# Altium footprint library yusend_power.PCBLIB: 87 footprints (part 3 of 6)
Each footprint in its own frame and in the unit in brackets; x right, y up, seen from the top. Pads: shape width x height; smd on the part's side, far side on the other; paste and mask are expansions set on the pad; w line width, h text height; cw(c..) or ccw(c..) is an arc to the next point about the centre after c.
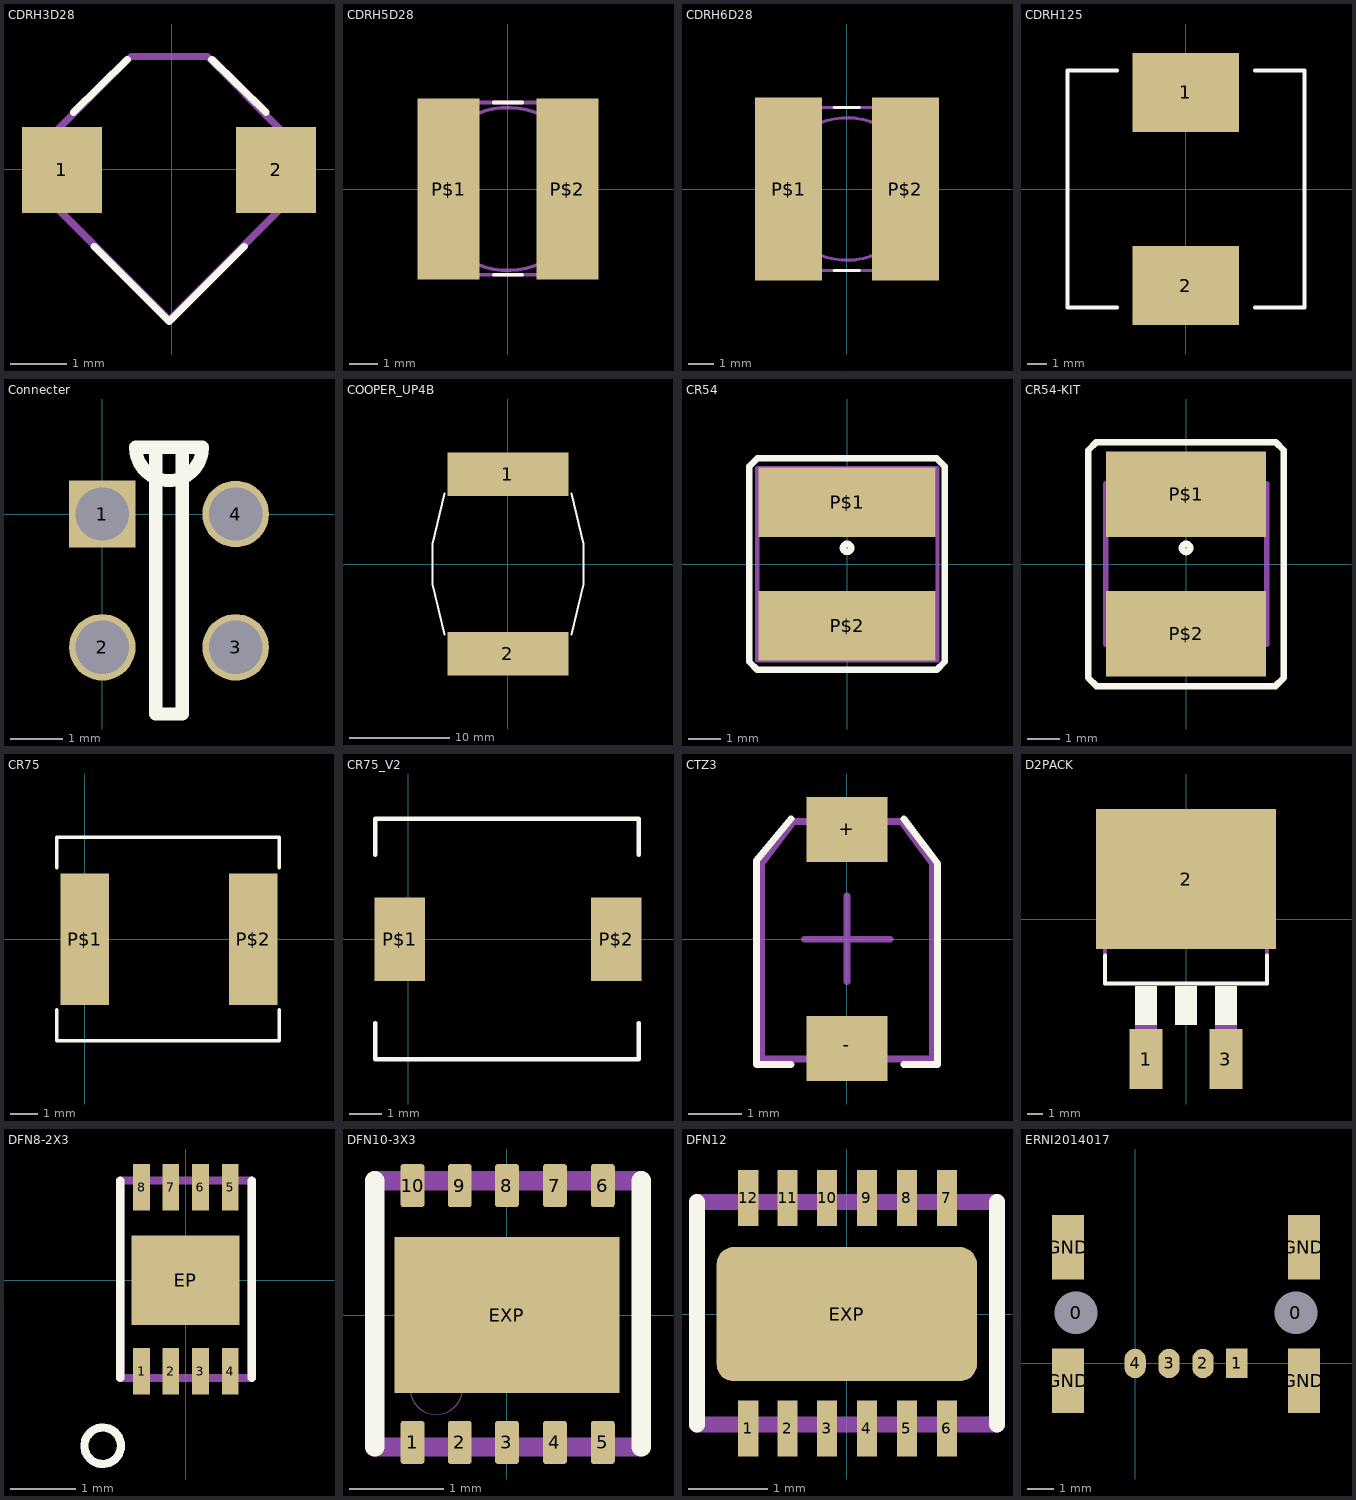
[diagram p2: the footprints below, top view; thin cyan lines are the x and y axes]

## CDRH3D28 [mil]
pads (2):
  rect 56x60 smd: 1(-76.79,-0.28) 2(73,-0.28)
Top Overlay:
  lines w5: -68.64,40 -31.08,77 ; -54.27,-53.74 -1.72,-106.3 51,-53.74 ; 28,77 66,40
Mechanical 16:
  lines w5: -80.72,-26.65 -80.73,27 -28.37,79 25,79 77,27 77,-26.65 ; -80.45,-26.77 -2.11,-105.11 ; -1.99,-105.31 77,-26.52

## CDRH5D28 [mil]
pads (2):
  rect 85x249 smd: P$1(-81.69,0) P$2(82,0)
Top Overlay:
  lines w5: -19.68,-118.11 20,-118.11 ; -19.68,119 20,119
Mechanical 16:
  circle w5: c0,0 r112
  lines w5: -118.11,-92.5 -118.11,93 cw(c-92.3,93.19) -92.5,119 93,119 cw(c93,93) 119,93 119,-92.5 cw(c93.19,-92.3) 93,-118.11 -92.5,-118.11 cw(c-92.5,-92.5) -118.11,-92.5

## CDRH6D28 [mil]
pads (2):
  rect 105x288 smd: P$1(-91.54,0) P$2(92,0)
Top Overlay:
  lines w5: -19.68,-127.95 20,-127.95 ; -19.68,128 20,128
Mechanical 16:
  circle w5: c0,0 r112
  lines w5: -127.95,-88.42 -127.95,89 cw(c-88.69,88.73) -88.42,128 89,128 cw(c89,89) 128,89 128,-88.42 cw(c88.73,-88.69) 89,-127.95 -88.42,-127.95 cw(c-88.42,-88.42) -127.95,-88.42

## CDRH125 [mil]
pads (2):
  rect 213x158 smd: 1(0,193) 2(0,-192.91)
Top Overlay:
  lines w8: -137.8,-236.22 -236.22,-236.22 -236.22,237 -137.8,237 ; 138,-236.22 237,-236.22 237,237 138,237

## Connecter [mil]
pads (4):
  rect 50x50 hole 40: 1(0,0)
  round 50 hole 40: 2(0,-100) 3(100,-100) 4(100,0)
Top Overlay:
  lines w10: 25,50 ccw(c50,50) 75,50 40,50 40,-150 60,-150 60,50 25,50

## COOPER_UP4B [mil]
pads (2):
  rect 473x170 smd: 1(0,351) 2(0,-350.39)
Top Overlay:
  lines w8: -248.03,-275.59 -295.28,-78.74 -295.28,79 -248.03,276 ; 249,-275.59 296,-78.74 296,79 249,276

## CR54 [mil]
pads (2):
  rect 217x85 smd: P$1(0,76) P$2(0,-75.59)
Top Overlay:
  circle w8: c0,20 r5
  lines w8: -120,-120 -120,110 -120,120 -110,130 110,130 120,120 120,-120 110,-130 -110,-130 -120,-120
Mechanical 16:
  lines w5: -110.24,-118.11 -110.24,118 111,118 111,-118.11 -110.24,-118.11

## CR54-KIT [mil]
pads (2):
  rect 197x105 smd: P$1(0,86) P$2(0,-85.43)
Top Overlay:
  circle w8: c0,20 r5
  lines w8: -120,-139.69 -110,-149.69 110,-149.69 120,-139.69 120,140 110,150 -110,150 -120,140 -120,-139.69
Mechanical 16:
  lines w7: -98.43,-98.43 -98.43,99 99,99 99,-98.43 -98.43,-98.43

## CR75 [mil]
pads (2):
  rect 69x186 smd: P$1(0,0) P$2(239,0)
Top Overlay:
  lines w5: -39.37,-100.39 -39.37,-143.7 276,-143.7 276,-100.39 ; -39.37,101 -39.37,144 276,144 276,101

## CR75_V2 [mil]
pads (2):
  rect 60x100 smd: P$1(-10,0) P$2(249,0)
Top Overlay:
  lines w5: -39.37,-100.39 -39.37,-143.7 276,-143.7 276,-100.39 ; -39.37,101 -39.37,144 276,144 276,101

## CTZ3 [mil]
pads (2):
  rect 60x48 smd: +(0,81) -(0,-80.71)
Top Overlay:
  lines w5: -41.34,-92.52 -66.93,-92.52 -66.93,58 -41.34,89 ; 42,-92.52 67,-92.52 67,56 42,89
Mechanical 16:
  lines w5: -31.5,0 32,0 ; -19.68,0 20,0 ; 0,-31.5 0,32 ; -62.99,-88.58 63,-88.58 63,56 40,87 -39.37,87 -62.99,56 -62.99,-88.58

## D2PACK [mil]
pads (3):
  rect 82x150 smd: 1(-100,-350) 3(100,-350)
  rect 450x350 smd: 2(0,100)
Top Overlay:
  rectangle: -28,-265 28,-167
  rectangle: 72,-265 128,-167
  rectangle: -128,-265 -72,-167
  lines w10: -202,-91 -202,-161 202,-161 202,-91
Mechanical 16:
  rectangle: 72,-321 128,-265
  rectangle: 78,-375 122,-319
  rectangle: -128,-321 -72,-265
  rectangle: -122,-375 -78,-319
  lines w10: -202,-161 -202,175 ; 202,-161 202,175 ; -202,175 202,175 ; -202,175 -202,185 -133,229 123,229 202,175

## DFN8-2X3 [mil]
pads (9):
  rect 10x28 smd: 1(-26.57,-55.12) 2(-8.86,-55.12) 3(9,-55.12) 4(27,-55.12) 5(27,56) 6(9,56) 7(-8.86,56) 8(-26.57,56)
  rect 65x54 smd: EP(0,0)
Top Overlay:
  circle w5: c-50,-100 r11
  lines w5: -39.37,-59.06 -39.37,60 ; 40,-59.06 40,60
Mechanical 16:
  lines w5: -39.37,-59.06 -39.37,60 40,60 40,-59.06 -39.37,-59.06

## DFN10-3X3 [mil]
pads (11):
  rrect25% 10x18 smd: 1(-39.37,-53.15) 2(-19.68,-53.15) 3(0,-53.15) 4(20,-53.15) 5(40,-53.15) 6(40,54) 7(20,54) 8(0,54) 9(-19.68,54) 10(-39.37,54)
  rect 94x65 smd: EXP(0,0)
Top Overlay:
  lines w8: -55.12,-55.12 -55.12,56 ; 56,-55.12 56,56
Mechanical 16:
  circle w0: c-29.53,-30.51 r11
  lines w8: -55.12,-55.12 56,-55.12 ; -55.12,56 56,56

## DFN12 [mil]
pads (13):
  rect 10x28 smd: 1(-49.21,-57.09) 2(-29.53,-57.09) 3(-9.84,-57.09) 4(10,-57.09) 5(30,-57.09) 6(50,-57.09) 7(50,58) 8(30,58) 9(10,58) 10(-9.84,58) 11(-29.53,58) 12(-49.21,58)
  rrect25% 130x67 smd: EXP(0,0)
Top Overlay:
  lines w8: -74.8,-55.12 -74.8,56 ; 75,-55.12 75,56
Top Paste:
  rectangle: -53.15,-69.88 -45.28,-44.29
  rectangle: -33.46,-69.88 -25.59,-44.29
  rectangle: -13.78,-69.88 -5.91,-44.29
  rectangle: 6,-69.88 14,-44.29
  rectangle: 26,-69.88 34,-44.29
  rectangle: 46,-69.88 54,-44.29
  region: 54,70 46,70 46,45 54,45
  region: 34,70 26,70 26,45 34,45
  region: 14,70 6,70 6,45 14,45
  region: -5.91,70 -13.78,70 -13.78,45 -5.91,45
  region: -25.59,70 -33.46,70 -33.46,45 -25.59,45
  region: -45.28,70 -53.15,70 -53.15,45 -45.28,45
  region: -59.06,-20.67 -59.3,21.98 -59.53,22.54 -57.79,26.74 -54.16,28.25 -54.13,28 55,28.41 58.83,26.83 60.41,23 60,23 60.39,-22.64 58.84,-26.4 55.04,-27.97 55,-27.95 55,-27.56 -52.17,-27.56
Top Solder:
  rectangle: -55.12,-71.85 -43.31,-42.32
  rectangle: -35.43,-71.85 -23.62,-42.32
  rectangle: -15.75,-71.85 -3.94,-42.32
  rectangle: 4,-71.85 16,-42.32
  rectangle: 24,-71.85 36,-42.32
  rectangle: 44,-71.85 56,-42.32
  region: 56,72 44,72 44,43 56,43
  region: 36,72 24,72 24,43 36,43
  region: 16,72 4,72 4,43 16,43
  region: -3.94,72 -15.75,72 -15.75,43 -3.94,43
  region: -23.62,72 -35.43,72 -35.43,43 -23.62,43
  region: -43.31,72 -55.12,72 -55.12,43 -43.31,43
  region: -62.01,-23.62 -62.25,24.98 -62.49,25.54 -60.75,29.74 -57.11,31.25 -57.09,31 58,31.41 61.83,29.83 63.41,26 63,26 63.39,-25.59 61.84,-29.35 58.04,-30.92 58,-30.9 58,-30.51 -55.12,-30.51
Mechanical 16:
  lines w8: -74.8,-55.12 75,-55.12 ; -74.8,56 75,56

## ERNI2014017 [mm]
pads (10):
  round 1.524 hole 1.6 unplated: 0(-2.21,1.9) 0(6.02,1.9)
  rect 0.8x1.1 smd: 1(3.81,0)
  oval 0.8x1.1 smd: 2(2.54,0) 3(1.27,0) 4(0,0)
  rect 1.2x2.4 smd: GND(-2.51,-0.65) GND(-2.51,4.35) GND(6.32,-0.65) GND(6.32,4.35)